# EAGLE library part LTRBGFSF (library led)
LED RGB RECT DIFFUSED 6PLCC
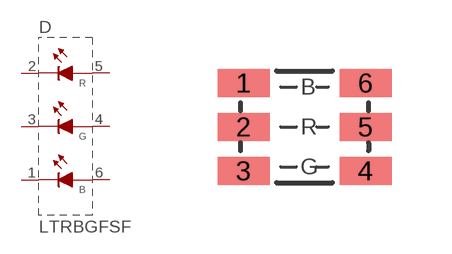
[diagram p13: symbol with the pads of PLCC-6-OSRAM; footprint PLCC-6-OSRAM]

Designator prefix D

## LTRBGFSF (DIGIKEY: 475-2899-1-ND; P1I: o)  [PLCC-6-OSRAM]
1  CB  pas
2  CR  pas
3  CG  pas
4  AG  pas
5  AR  pas
6  AB  pas

## Footprint PLCC-6-OSRAM (pad centres in mm)
smd 1.3 x 0.7: 1 -1.525,1.1; 2 -1.525,0; 3 -1.525,-1.1; 4 1.525,-1.1; 5 1.525,0; 6 1.525,1.1